# Altium footprint library DS18B20.PcbLib: 1 footprints
Each footprint in its own frame and in the unit in brackets; x right, y up, seen from the top. Pads: shape width x height; smd on the part's side, far side on the other; paste and mask are expansions set on the pad; w line width, h text height; cw(c..) or ccw(c..) is an arc to the next point about the centre after c.
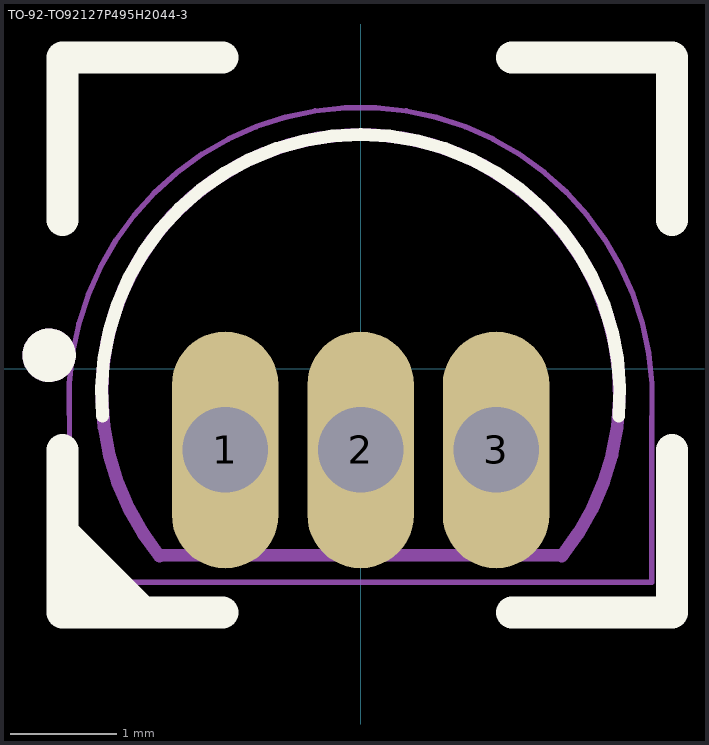
[diagram p0: the footprint, top view; thin cyan lines are the x and y axes]

## TO-92-TO92127P495H2044-3 [mm]
pads (3):
  oval 1x2.22 hole 0.8: 1(-1.27,-0.76) 2(0,-0.76) 3(1.27,-0.76)
Top Overlay:
  circle w0.25: c-2.921,0.127 r0.125
  lines w0.12: -2.421,-0.444 cw(c0,-0.232) 2.421,-0.444
  lines w0.3: -2.794,-2.286 -1.294,-2.286 ; -2.794,-2.262 -2.794,-0.762 ; -2.794,-1.512 -2.794,-1.536 -2.044,-2.286 -2.286,-2.286 -2.667,-1.905 ; -2.794,1.397 -2.794,2.897 ; -2.794,2.921 -1.294,2.921 ; 1.421,-2.286 2.921,-2.286 ; 1.421,2.921 2.921,2.921 ; 2.921,-2.262 2.921,-0.762 ; 2.921,1.397 2.921,2.897
Mechanical 13:
  circle w0.25: c-2.921,0.127 r0.125
  lines w0.12: -1.893,-1.748 1.892,-1.748 ; -1.886,-1.756 cw(c-0.001,-0.229) 1.885,-1.756
Mechanical 15:
  lines w0.05: -2.731,-0.426 cw(c0,-0.283) 2.731,-0.426 ; -2.73,-0.45 -2.73,-2 2.73,-2 2.73,-0.45
3D body "step_temp.STEP": height 20.45, standoff 0, extent -2.284,-1.778 2.286,1.841